# Altium schematic symbol library Connector.SchLib: 29 symbols
Pins are listed as number, name and electrical type; pins without a type are passive.

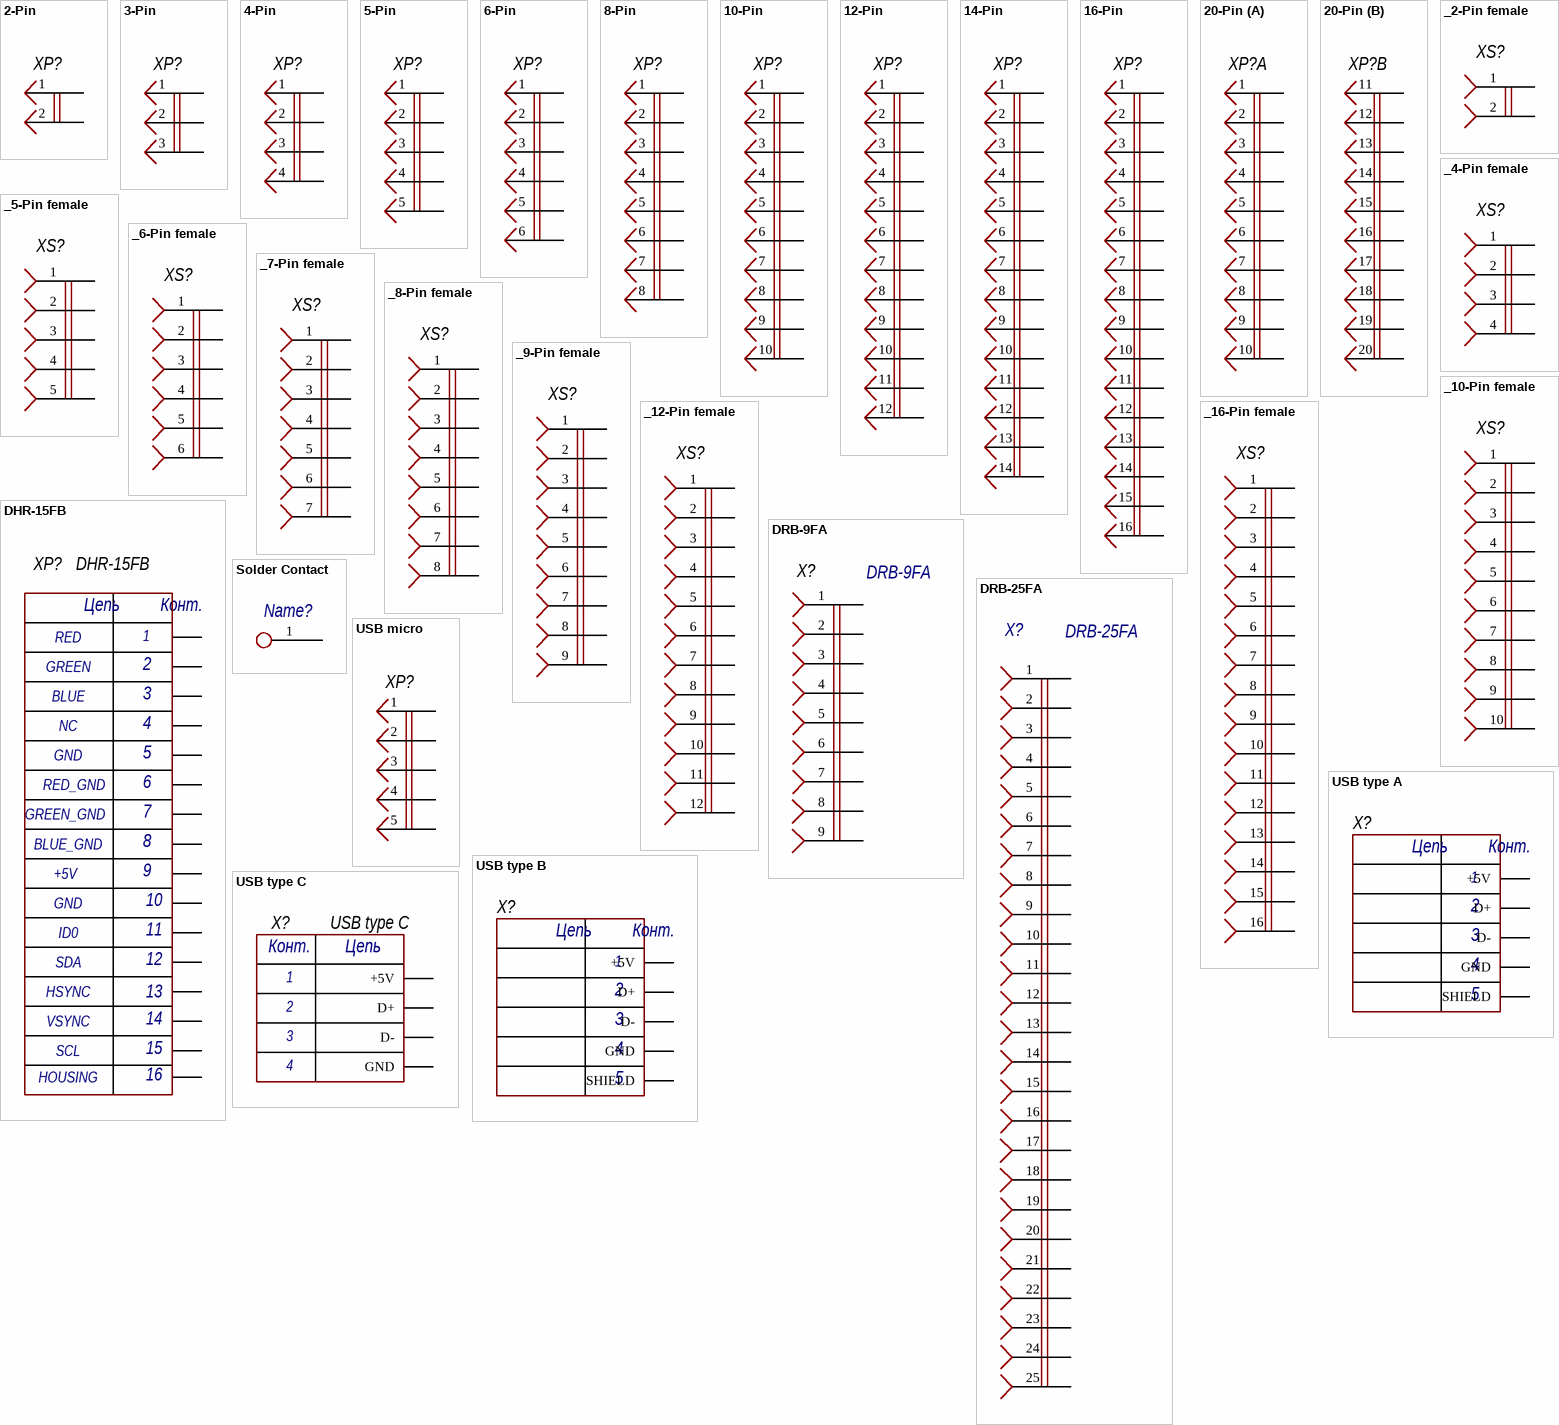
[diagram p0: symbols 2-Pin to USB type C]

## 2-Pin
designator XP?  (value not drawn)
Model: *; Manufcacture: *; HelpURL: *; Case: *; Value: *
footprint CON: PLS-2
footprint CON: 300-02P-5.08 (2 pin 5.08mm screw connector)
footprint CON: PWL-2
footprint CON: WF-2
footprint CON: CWF-2
footprint CON: CWF-2R
pins: 1, 2
1 alternate drawing of the same symbol

## 3-Pin
designator XP?  (value not drawn)
Model: *; Manufcacture: *; HelpURL: *; Case: *; Value: *
footprint CON: PLS-3
footprint CON: PWL-3
footprint CON: CWF-3
pins: 1, 2, 3

## 4-Pin
designator XP?  (value not drawn)
Model: *; Manufcacture: *; HelpURL: *; Case: *; Value: *
footprint CON: PLS-4 (PLS-40 4 pin header)
footprint CON: PLD-4
footprint CON: CWF-4R
footprint Dubox 76383-402LF - duplicate
footprint CON: CWF-4
footprint CON: WF-04
pins: 1, 2, 3, 4

## 5-Pin
designator XP?  (value not drawn)
Model: *; Manufcacture: *; HelpURL: *; Case: *; Value: *
footprint CON: PLS-5
footprint CON: PLS-5R
footprint CON: CWF-5
pins: 1, 2, 3, 4, 5

## 6-Pin
designator XP?  (value not drawn)
Model: *; Manufcacture: *; HelpURL: *; Case: *; Value: *
footprint CON: PLS-6
footprint CON: PLD-6
footprint CON: CWF-6
pins: 1, 2, 3, 4, 5, 6

## 8-Pin
designator XP?  (value not drawn)
Model: *; Manufcacture: *; HelpURL: *; Case: *; Value: *
footprint CON: IDC-8MS (IDC-16MS straight leads pcb mount)
footprint CON: IDC-8R (IDC-8MS 8 pin PCB-mount header)
pins: 1, 2, 3, 4, 5, 6, 7, 8

## 10-Pin
designator XP?  (value not drawn)
Model: *; Manufcacture: *; HelpURL: *; Case: *; Value: *
footprint CON: IDC-10MS (IDC-10MS 10 pin PCB-mount header)
footprint CON: IDC-10R (IDC-10MS 10 pin PCB-mount header)
footprint CON: PLD-10
pins: 1, 2, 3, 4, 5, 6, 7, 8, 9, 10

## 12-Pin
designator XP?  (value not drawn)
Model: *; Manufcacture: *; HelpURL: *; Case: *; Value: *
footprint CON: PLD-12
footprint CON: IDC-12R (IDC-12MS 12 pin PCB-mount header)
footprint CON: IDC-12MS (IDC-12MS 12 pin PCB-mount header)
pins: 1, 2, 3, 4, 5, 6, 7, 8, 9, 10, 11, 12

## 14-Pin
designator XP?  (value not drawn)
Model: *; Manufcacture: *; HelpURL: *; Case: *; Value: *
footprint CON: IDC-14R (IDC-12MS 14 pin PCB-mount header)
footprint CON: IDC-14MS (IDC-14MS connector)
pins: 1, 2, 3, 4, 5, 6, 7, 8, 9, 10, 11, 12, 13, 14

## 16-Pin
designator XP?  (value not drawn)
Model: *; Manufcacture: *; HelpURL: *; Case: *; Value: *
footprint CON: PLD-16
footprint CON: PLD-16 (inverted)
footprint CON: PLD-16 (inverted/long)
footprint CON: IDC-16MS (IDC-16MS straight leads pcb mount)
footprint CON: IDC-16R (IDC-16MS 16 pin PCB-mount header)
pins: 1, 2, 3, 4, 5, 6, 7, 8, 9, 10, 11, 12, 13, 14, 15, 16

## 20-Pin
designator XP?  (value not drawn)
Model: *; Manufcacture: *; HelpURL: *; Case: *; Value: *
footprint CON: IDC-20MS
part A pins: 1, 2, 3, 4, 5, 6, 7, 8, 9, 10
part B pins: 11, 12, 13, 14, 15, 16, 17, 18, 19, 20

## _2-Pin female
designator XS?  (value not drawn)
Value: *
footprint CON: 300-02P-5.08 (2 pin 5.08mm screw connector)
pins: 1, 2

## _4-Pin female
designator XS?  (value not drawn)
Value: *
pins: 1, 2, 3, 4

## _5-Pin female
designator XS?  (value not drawn)
Value: *
pins: 1, 2, 3, 4, 5

## _6-Pin female
designator XS?  (value not drawn)
Value: *
footprint CON: PBS-6 (PBS-6)
pins: 1, 2, 3, 4, 5, 6

## _7-Pin female
designator XS?  (value not drawn)
Value: *
pins: 1, 2, 3, 4, 5, 6, 7

## _8-Pin female
designator XS?  (value not drawn)
Value: *
footprint CON: PBD-8 (PBD-8)
footprint CON: PBS-8 (PBS-8)
pins: 1, 2, 3, 4, 5, 6, 7, 8

## _9-Pin female
designator XS?  (value not drawn)
Value: *
pins: 1, 2, 3, 4, 5, 6, 7, 8, 9

## _10-Pin female
designator XS?  (value not drawn)
Value: *
footprint CON: PBD-10
pins: 1, 2, 3, 4, 5, 6, 7, 8, 9, 10

## _12-Pin female
designator XS?  (value not drawn)
Value: *
footprint CON: PBD-12 (PBD-12)
pins: 1, 2, 3, 4, 5, 6, 7, 8, 9, 10, 11, 12

## _16-Pin female
designator XS?  (value not drawn)
Value: *
footprint CON: PBD-16 (PBD-16)
pins: 1, 2, 3, 4, 5, 6, 7, 8, 9, 10, 11, 12, 13, 14, 15, 16

## DHR-15FB
designator XP?
Model: *; Manufcacture: *; HelpURL: *; Case: *; Value: *
footprint DHR-15FB (DS1038-15F)
pins: 1 RED, 2 GREEN, 3 BLUE, 4 NC, 5 GND, 6 RED_GND, 7 GREEN_GND, 8 BLUE_GND, 9 +5V, 10 GND, 11 ID0, 12 SDA, 13 HSYNC, 14 VSYNC, 15 SCL, 16 Housing
1 alternate drawing of the same symbol
text: Цепь; Конт.

## DRB-9FA
designator X?
footprint CON: DB-9F
pins: 1, 2, 3, 4, 5, 6, 7, 8, 9

## DRB-25FA
designator X?
footprint DRB-25FA
pins: 1, 2, 3, 4, 5, 6, 7, 8, 9, 10, 11, 12, 13, 14, 15, 16, 17, 18, 19, 20, 21, 22, 23, 24, 25

## Solder Contact
designator Name?  (value not drawn)
footprint Solder Contact hole
footprint Solder Contact Pad
pins: 1

## USB micro
designator XP?  (value not drawn)
Model: *; Manufcacture: *; HelpURL: *; Case: *; Value: *
footprint MOLEX_105017-0001
pins: 1, 2, 3, 4, 5

## USB type A
designator X?  (value not drawn)
footprint USB type A
pins: 1 +5V, 2 D+, 3 D-, 4 GND, 5 SHIELD
text: Цепь; Конт.

## USB type B
designator X?  (value not drawn)
footprint USB type B
pins: 1 +5V, 2 D+, 3 D-, 4 GND, 5 SHIELD
text: Цепь; Конт.

## USB type C
designator X?
footprint USB type C
pins: 1 +5V, 2 D+, 3 D-, 4 GND
text: Конт.; Цепь